# EAGLE library part B6B-PH-* (library jst-ph1)
Wire-to-Board 2.0mm pitch top mount connector Source: http://www.jst-mfg.com/product/pdf/jpn/PH.pdf http://www.jst-mfg.com/product/detail.php?series=199
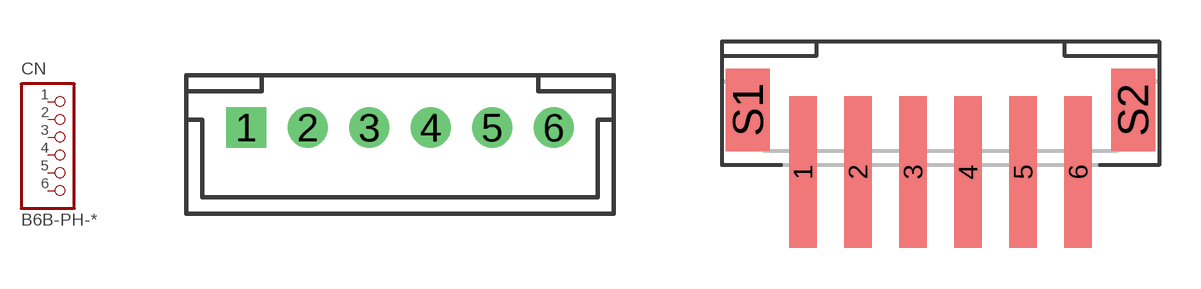
[diagram p0: symbol with the pads of B6B-PH-K-S; footprints B6B-PH-K-S, B6B-PH-SM4-TB]

Designator prefix CN

## B6B-PH-K-S  [B6B-PH-K-S]
1  1  pas
2  2  pas
3  3  pas
4  4  pas
5  5  pas
6  6  pas

## B6B-PH-SM4-TB  [B6B-PH-SM4-TB]
Pads as for B6B-PH-K-S

## Footprint B6B-PH-K-S (pad centres in mm)
drill 0.8 square: 1 -5,0
drill 0.8: 2 -3,0; 3 -1,0; 4 1,0; 5 3,0; 6 5,0

## Footprint B6B-PH-SM4-TB (pad centres in mm)
smd 1 x 5.5: 1 -5,-3.05; 2 -3,-3.05; 3 -1,-3.05; 4 1,-3.05; 5 3,-3.05; 6 5,-3.05
smd 1.6 x 3: S1 -7,-0.8; S2 7,-0.8